# Altium footprint library zytek_ctl.PcbLib: 24 footprints (part 2 of 2)
Each footprint in its own frame and in the unit in brackets; x right, y up, seen from the top. Pads: shape width x height; smd on the part's side, far side on the other; paste and mask are expansions set on the pad; w line width, h text height; cw(c..) or ccw(c..) is an arc to the next point about the centre after c.
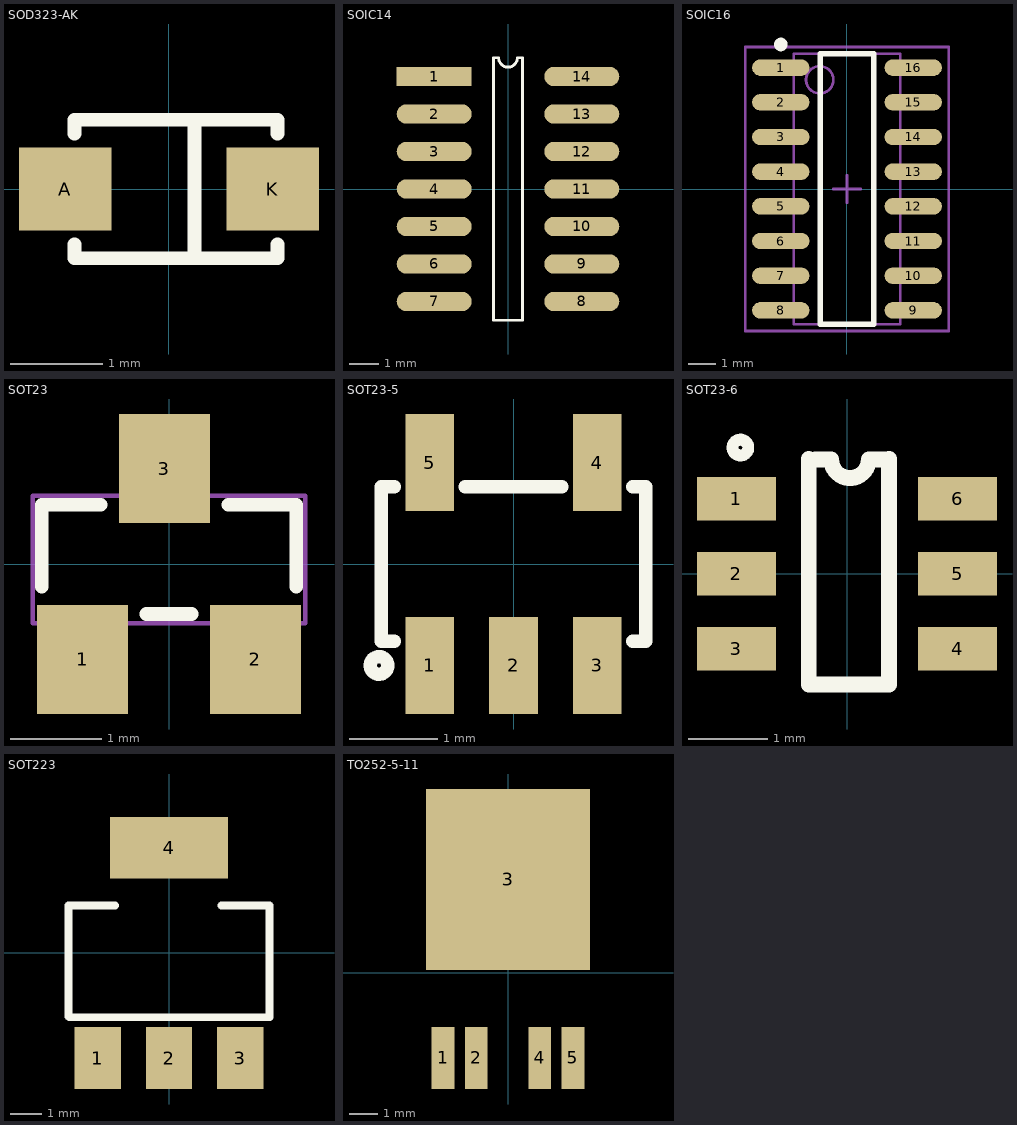
[diagram p1: the footprints below, top view; thin cyan lines are the x and y axes]

## SOD323-AK [mm]
pads (2):
  rect 1x0.9 smd: A(-1.125,0) K(1.125,0)
Top Overlay:
  lines w0.15: -1.025,-0.6 -1.025,-0.75 1.175,-0.75 1.175,-0.6 ; -1.025,0.6 -1.025,0.75 1.175,0.75 1.175,0.6 ; 0.275,-0.7 0.275,0.75
Mechanical 2:
  text ".designator" at 0,0 h1
3D body: height 1, standoff 0, extent -1.125,-0.7 1.175,0.7

## SOIC14 [mm]
pads (14):
  rect 2.54x0.65 smd: 1(-2.5,3.81)
  oval 2.54x0.65 smd: 2(-2.5,2.54) 3(-2.5,1.27) 4(-2.5,0) 5(-2.5,-1.27) 6(-2.5,-2.54) 7(-2.5,-3.81) 8(2.5,-3.81) 9(2.5,-2.54) 10(2.5,-1.27) 11(2.5,0) 12(2.5,1.27) 13(2.5,2.54) 14(2.5,3.81)
Top Overlay:
  lines w0.1: -0.495,-4.445 -0.495,4.445 -0.318,4.445 ccw(c0,4.445) 0.318,4.445 0.495,4.445 0.495,-4.445 -0.495,-4.445
Mechanical 2:
  text ".designator" at 0,0 h1

## SOIC16 [mm] "SOIC, 16-Leads, Body 9.9x3.9mm (max), Pitch 1.27mm, IPC Medium Density"
height 1.75
pads (16):
  oval 2.1x0.6 smd: 1(-2.425,4.445) 2(-2.425,3.175) 3(-2.425,1.905) 4(-2.425,0.635) 5(-2.425,-0.635) 6(-2.425,-1.905) 7(-2.425,-3.175) 8(-2.425,-4.445) 9(2.425,-4.445) 10(2.425,-3.175) 11(2.425,-1.905) 12(2.425,-0.635) 13(2.425,0.635) 14(2.425,1.905) 15(2.425,3.175) 16(2.425,4.445)
Top Overlay:
  circle w0.25: c-2.425,5.295 r0.125
  lines w0.2: -0.975,-4.95 -0.975,4.95 0.975,4.95 0.975,-4.95 -0.975,-4.95
Mechanical 2:
  text ".designator" at 0,0 h1
Mechanical 13:
  circle w0.1: c-1,4 r0.5
  lines w0.1: -1.95,-4.95 -1.95,4.95 1.95,4.95 1.95,-4.95 -1.95,-4.95
Mechanical 15:
  lines w0.1: -0.5,0 0.5,0 ; 0,-0.5 0,0.5 ; -3.725,-5.2 -3.725,5.2 3.725,5.2 3.725,-5.2 -3.725,-5.2
3D body: height 1.75, standoff 0.25, extent -1.95,-4.95 1.95,4.95

## SOT23 [mm]
pads (3):
  rect 1x1.2 smd: 1(-0.95,-1.05) 2(0.95,-1.05) 3(-0.05,1.05)
Top Overlay:
  lines w0.15: -1.4,-0.25 -1.4,0.65 -0.75,0.65 ; -0.25,-0.55 0.25,-0.55 ; 0.65,0.65 1.4,0.65 1.4,-0.25
Mechanical 2:
  lines w0.05: -1.15,-0.65 -1.15,-1.25 -0.75,-1.25 -0.75,-0.65 ; -0.2,0.75 -0.2,1.35 0.2,1.35 0.2,0.75 ; 0.75,-0.65 0.75,-1.25 1.15,-1.25 1.15,-0.65 ; -1.5,-0.65 1.5,-0.65 1.5,0.75 -1.5,0.75 -1.5,-0.65
  text ".designator" at 0,0 h1
3D body: height 1, standoff 0, extent -1.45,-0.55 1.45,0.75

## SOT23-5 [mm]
pads (5):
  rect 0.55x1.1 smd: 1(-0.95,-1.15) 2(0,-1.15) 3(0.95,-1.15) 4(0.95,1.15) 5(-0.95,1.15)
Top Overlay:
  circle w0.15: c-1.525,-1.15 r0.1
  lines w0.15: -1.35,-0.875 -1.5,-0.875 -1.5,0.875 -1.35,0.875 ; -0.55,0.875 0.55,0.875 ; 1.35,-0.875 1.5,-0.875 1.5,0.875 1.35,0.875
Mechanical 2:
  text ".designator" at 0,0 h1
3D body: height 1.3, standoff 0, extent -1.5,-0.8 1.5,0.9

## SOT23-6 [mm]
pads (6):
  rect 1x0.55 smd: 1(-1.4,0.95) 2(-1.4,0) 3(-1.4,-0.95) 4(1.4,-0.95) 5(1.4,0) 6(1.4,0.95)
Top Overlay:
  circle w0.15: c-1.35,1.6 r0.1
  lines w0.2: -0.484,1.458 -0.484,-1.4 0.532,-1.4 0.532,1.458 ; -0.4,1.45 -0.228,1.45 ; -0.2,1.45 ccw(c0.037,1.45) 0.275,1.45 ; 0.3,1.45 0.472,1.45
Mechanical 2:
  text ".designator" at 0,0 h1

## SOT223 [mm]
pads (4):
  rect 1.5x2 smd: 1(-2.3,-3.4) 2(0,-3.4) 3(2.3,-3.4)
  rect 3.8x2 smd: 4(0,3.4)
Top Overlay:
  lines w0.254: -3.25,-2.054 -3.25,1.529 -1.741,1.529 ; -3.214,-2.079 3.25,-2.079 ; 1.703,1.528 3.212,1.528 ; 3.25,-2.028 3.25,1.529
Mechanical 2:
  text ".designator" at 0,0 h1

## TO252-5-11 [mm]
pads (5):
  rect 0.8x2.2 smd: 1(-2.3,-3.019) 2(-1.13,-3.019) 4(1.129,-3.019) 5(2.299,-3.019)
  rect 5.8x6.4 smd: 3(0,3.3)
Mechanical 2:
  text ".designator" at 0,0 h1
3D body: height 2.4, standoff 0, extent -3.35,-3.9 3.35,6.399